# Altium footprint library Connector_PinHeader_1.00mm.PcbLib: 278 footprints (part 5 of 18)
Each footprint in its own frame and in the unit in brackets; x right, y up, seen from the top. Pads: shape width x height; smd on the part's side, far side on the other; paste and mask are expansions set on the pad; w line width, h text height; cw(c..) or ccw(c..) is an arc to the next point about the centre after c.
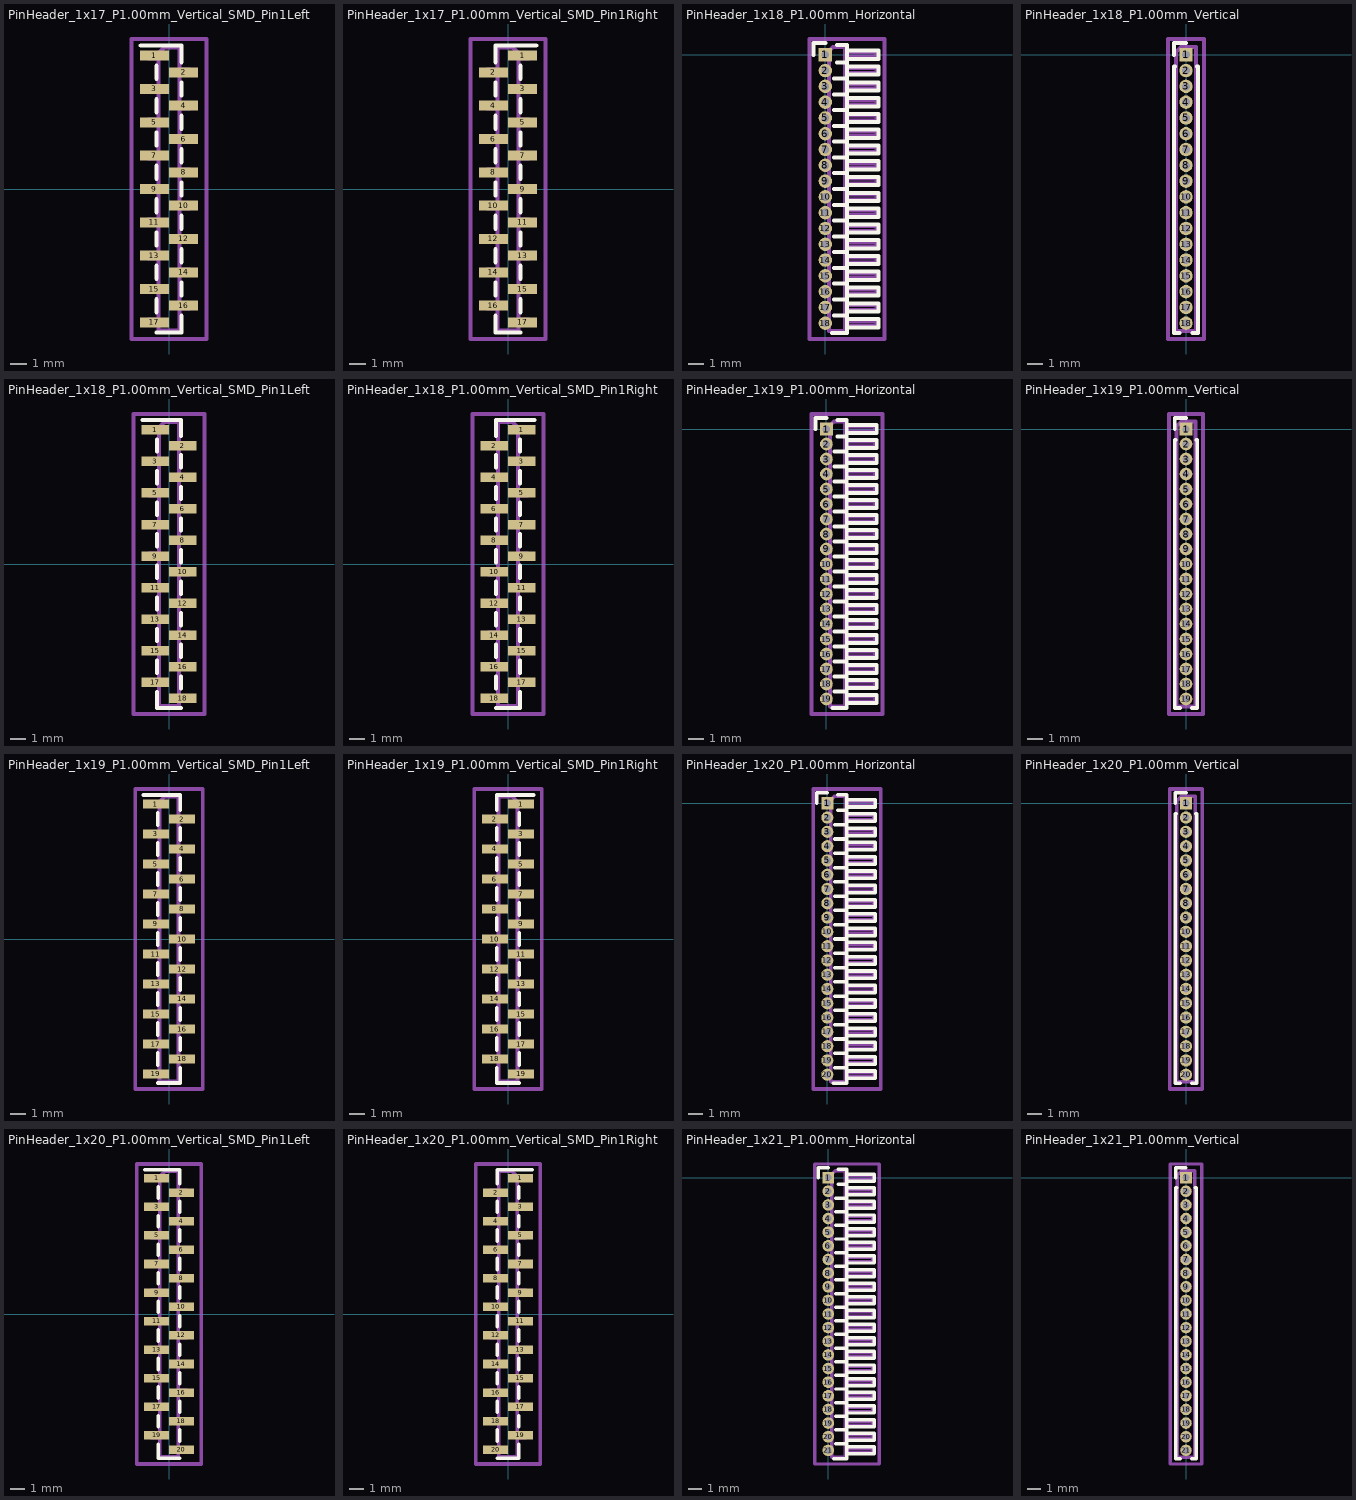
[diagram p4: the footprints below, top view; thin cyan lines are the x and y axes]

## PinHeader_1x17_P1.00mm_Vertical_SMD_Pin1Left [mm]
pads (17):
  rect 1.75x0.6 smd: 1(-0.875,8) 2(0.875,7) 3(-0.875,6) 4(0.875,5) 5(-0.875,4) 6(0.875,3) 7(-0.875,2) 8(0.875,1) 9(-0.875,0) 10(0.875,-1) 11(-0.875,-2) 12(0.875,-3) 13(-0.875,-4) 14(0.875,-5) 15(-0.875,-6) 16(0.875,-7) 17(-0.875,-8)
F.SilkS:
  lines w0.254: -1.69,8.61 -0.745,8.61 0.745,8.61 0.745,7.61 ; -0.745,-8.61 0.745,-8.61 0.745,-7.61 ; -0.745,-7.39 -0.745,-6.61 ; -0.745,-5.39 -0.745,-4.61 ; -0.745,-3.39 -0.745,-2.61 ; -0.745,-1.39 -0.745,-0.61 ; -0.745,0.61 -0.745,1.39 ; -0.745,2.61 -0.745,3.39 ; -0.745,4.61 -0.745,5.39 ; -0.745,6.61 -0.745,7.39 ; 0.745,-6.39 0.745,-5.61 ; 0.745,-4.39 0.745,-3.61 ; 0.745,-2.39 0.745,-1.61 ; 0.745,-0.39 0.745,0.39 ; 0.745,1.61 0.745,2.39 ; 0.745,3.61 0.745,4.39 ; 0.745,5.61 0.745,6.39
Top Assembly:
  lines w0.254: -0.635,-8.15 -1.25,-8.15 -1.25,-7.85 -0.635,-7.85 ; -0.635,-6.15 -1.25,-6.15 -1.25,-5.85 -0.635,-5.85 ; -0.635,-4.15 -1.25,-4.15 -1.25,-3.85 -0.635,-3.85 ; -0.635,-2.15 -1.25,-2.15 -1.25,-1.85 -0.635,-1.85 ; -0.635,-0.15 -1.25,-0.15 -1.25,0.15 -0.635,0.15 ; -0.635,1.85 -1.25,1.85 -1.25,2.15 -0.635,2.15 ; -0.635,3.85 -1.25,3.85 -1.25,4.15 -0.635,4.15 ; -0.635,5.85 -1.25,5.85 -1.25,6.15 -0.635,6.15 ; -0.635,7.85 -1.25,7.85 -1.25,8.15 -0.635,8.15 ; 0.635,-7.15 1.25,-7.15 1.25,-6.85 0.635,-6.85 ; 0.635,-5.15 1.25,-5.15 1.25,-4.85 0.635,-4.85 ; 0.635,-3.15 1.25,-3.15 1.25,-2.85 0.635,-2.85 ; 0.635,-1.15 1.25,-1.15 1.25,-0.85 0.635,-0.85 ; 0.635,0.85 1.25,0.85 1.25,1.15 0.635,1.15 ; 0.635,2.85 1.25,2.85 1.25,3.15 0.635,3.15 ; 0.635,4.85 1.25,4.85 1.25,5.15 0.635,5.15 ; 0.635,6.85 1.25,6.85 1.25,7.15 0.635,7.15 ; -0.635,8.15 -0.635,-8.5 0.635,-8.5 0.635,8.5 -0.285,8.5 -0.635,8.15
  text "'.Designator'" at 0.84,-4.047 h1
Top Courtyard:
  lines w0.254: -2.25,-9 2.25,-9 2.25,9 -2.25,9 -2.25,-9
Top Designator:
  text ".Designator" at -7.618,-0.508 h1.52

## PinHeader_1x17_P1.00mm_Vertical_SMD_Pin1Right [mm]
pads (17):
  rect 1.75x0.6 smd: 1(0.875,8) 2(-0.875,7) 3(0.875,6) 4(-0.875,5) 5(0.875,4) 6(-0.875,3) 7(0.875,2) 8(-0.875,1) 9(0.875,0) 10(-0.875,-1) 11(0.875,-2) 12(-0.875,-3) 13(0.875,-4) 14(-0.875,-5) 15(0.875,-6) 16(-0.875,-7) 17(0.875,-8)
F.SilkS:
  lines w0.254: -0.745,-7.61 -0.745,-8.61 0.745,-8.61 ; -0.745,-6.39 -0.745,-5.61 ; -0.745,-4.39 -0.745,-3.61 ; -0.745,-2.39 -0.745,-1.61 ; -0.745,-0.39 -0.745,0.39 ; -0.745,1.61 -0.745,2.39 ; -0.745,3.61 -0.745,4.39 ; -0.745,5.61 -0.745,6.39 ; -0.745,8.39 -0.745,7.61 -0.745,8.61 0.745,8.61 1.69,8.61 ; 0.745,-7.39 0.745,-6.61 ; 0.745,-5.39 0.745,-4.61 ; 0.745,-3.39 0.745,-2.61 ; 0.745,-1.39 0.745,-0.61 ; 0.745,0.61 0.745,1.39 ; 0.745,2.61 0.745,3.39 ; 0.745,4.61 0.745,5.39 ; 0.745,6.61 0.745,7.39
Top Assembly:
  lines w0.254: -0.635,-7.15 -1.25,-7.15 -1.25,-6.85 -0.635,-6.85 ; -0.635,-5.15 -1.25,-5.15 -1.25,-4.85 -0.635,-4.85 ; -0.635,-3.15 -1.25,-3.15 -1.25,-2.85 -0.635,-2.85 ; -0.635,-1.15 -1.25,-1.15 -1.25,-0.85 -0.635,-0.85 ; -0.635,0.85 -1.25,0.85 -1.25,1.15 -0.635,1.15 ; -0.635,2.85 -1.25,2.85 -1.25,3.15 -0.635,3.15 ; -0.635,4.85 -1.25,4.85 -1.25,5.15 -0.635,5.15 ; -0.635,6.85 -1.25,6.85 -1.25,7.15 -0.635,7.15 ; 0.635,-8.15 1.25,-8.15 1.25,-7.85 0.635,-7.85 ; 0.635,-6.15 1.25,-6.15 1.25,-5.85 0.635,-5.85 ; 0.635,-4.15 1.25,-4.15 1.25,-3.85 0.635,-3.85 ; 0.635,-2.15 1.25,-2.15 1.25,-1.85 0.635,-1.85 ; 0.635,-0.15 1.25,-0.15 1.25,0.15 0.635,0.15 ; 0.635,1.85 1.25,1.85 1.25,2.15 0.635,2.15 ; 0.635,3.85 1.25,3.85 1.25,4.15 0.635,4.15 ; 0.635,5.85 1.25,5.85 1.25,6.15 0.635,6.15 ; 0.635,7.85 1.25,7.85 1.25,8.15 0.635,8.15 ; 0.635,8.15 0.635,-8.5 -0.635,-8.5 -0.635,8.5 0.285,8.5 0.635,8.15
  text "'.Designator'" at 0.84,-4.047 h1
Top Courtyard:
  lines w0.254: -2.25,-9 2.25,-9 2.25,9 -2.25,9 -2.25,-9
Top Designator:
  text ".Designator" at -7.618,-0.508 h1.52

## PinHeader_1x18_P1.00mm_Horizontal [mm]
pads (18):
  rect 0.85x0.85 hole 0.5: 1(0,0)
  round 0.85 hole 0.5: 2(0,-1) 3(0,-2) 4(0,-3) 5(0,-4) 6(0,-5) 7(0,-6) 8(0,-7) 9(0,-8) 10(0,-9) 11(0,-10) 12(0,-11) 13(0,-12) 14(0,-13) 15(0,-14) 16(0,-15) 17(0,-16) 18(0,-17)
F.SilkS:
  lines w0.254: -0.735,0 -0.735,0.735 0,0.735 ; 0.41,-17.61 1.36,-17.61 1.36,0.61 0.735,0.61 ; 0.539,-16.5 1.36,-16.5 ; 0.539,-15.5 1.36,-15.5 ; 0.539,-14.5 1.36,-14.5 ; 0.539,-13.5 1.36,-13.5 ; 0.539,-12.5 1.36,-12.5 ; 0.539,-11.5 1.36,-11.5 ; 0.539,-10.5 1.36,-10.5 ; 0.539,-9.5 1.36,-9.5 ; 0.539,-8.5 1.36,-8.5 ; 0.539,-7.5 1.36,-7.5 ; 0.539,-6.5 1.36,-6.5 ; 0.539,-5.5 1.36,-5.5 ; 0.539,-4.5 1.36,-4.5 ; 0.539,-3.5 1.36,-3.5 ; 0.539,-2.5 1.36,-2.5 ; 0.539,-1.5 1.36,-1.5 ; 0.735,-0.5 1.36,-0.5 ; 1.36,-17.26 3.36,-17.26 3.36,-16.74 1.36,-16.74 ; 1.36,-16.26 3.36,-16.26 3.36,-15.74 1.36,-15.74 ; 1.36,-15.26 3.36,-15.26 3.36,-14.74 1.36,-14.74 ; 1.36,-14.26 3.36,-14.26 3.36,-13.74 1.36,-13.74 ; 1.36,-13.26 3.36,-13.26 3.36,-12.74 1.36,-12.74 ; 1.36,-12.26 3.36,-12.26 3.36,-11.74 1.36,-11.74 ; 1.36,-11.26 3.36,-11.26 3.36,-10.74 1.36,-10.74 ; 1.36,-10.26 3.36,-10.26 3.36,-9.74 1.36,-9.74 ; 1.36,-9.26 3.36,-9.26 3.36,-8.74 1.36,-8.74 ; 1.36,-8.26 3.36,-8.26 3.36,-7.74 1.36,-7.74 ; 1.36,-7.26 3.36,-7.26 3.36,-6.74 1.36,-6.74 ; 1.36,-6.26 3.36,-6.26 3.36,-5.74 1.36,-5.74 ; 1.36,-5.26 3.36,-5.26 3.36,-4.74 1.36,-4.74 ; 1.36,-4.26 3.36,-4.26 3.36,-3.74 1.36,-3.74 ; 1.36,-3.26 3.36,-3.26 3.36,-2.74 1.36,-2.74 ; 1.36,-2.26 3.36,-2.26 3.36,-1.74 1.36,-1.74 ; 1.36,-1.26 3.36,-1.26 3.36,-0.74 1.36,-0.74 ; 1.36,-0.26 3.36,-0.26 3.36,0.26 1.36,0.26 1.36,-0.26
Top Assembly:
  lines w0.254: 0.25,-17.15 -0.15,-17.15 -0.15,-16.85 0.25,-16.85 ; 0.25,-16.15 -0.15,-16.15 -0.15,-15.85 0.25,-15.85 ; 0.25,-15.15 -0.15,-15.15 -0.15,-14.85 0.25,-14.85 ; 0.25,-14.15 -0.15,-14.15 -0.15,-13.85 0.25,-13.85 ; 0.25,-13.15 -0.15,-13.15 -0.15,-12.85 0.25,-12.85 ; 0.25,-12.15 -0.15,-12.15 -0.15,-11.85 0.25,-11.85 ; 0.25,-11.15 -0.15,-11.15 -0.15,-10.85 0.25,-10.85 ; 0.25,-10.15 -0.15,-10.15 -0.15,-9.85 0.25,-9.85 ; 0.25,-9.15 -0.15,-9.15 -0.15,-8.85 0.25,-8.85 ; 0.25,-8.15 -0.15,-8.15 -0.15,-7.85 0.25,-7.85 ; 0.25,-7.15 -0.15,-7.15 -0.15,-6.85 0.25,-6.85 ; 0.25,-6.15 -0.15,-6.15 -0.15,-5.85 0.25,-5.85 ; 0.25,-5.15 -0.15,-5.15 -0.15,-4.85 0.25,-4.85 ; 0.25,-4.15 -0.15,-4.15 -0.15,-3.85 0.25,-3.85 ; 0.25,-3.15 -0.15,-3.15 -0.15,-2.85 0.25,-2.85 ; 0.25,-2.15 -0.15,-2.15 -0.15,-1.85 0.25,-1.85 ; 0.25,-1.15 -0.15,-1.15 -0.15,-0.85 0.25,-0.85 ; 0.25,-0.15 -0.15,-0.15 -0.15,0.15 0.25,0.15 ; 1.25,-17.15 3.25,-17.15 3.25,-16.85 1.25,-16.85 ; 1.25,-16.15 3.25,-16.15 3.25,-15.85 1.25,-15.85 ; 1.25,-15.15 3.25,-15.15 3.25,-14.85 1.25,-14.85 ; 1.25,-14.15 3.25,-14.15 3.25,-13.85 1.25,-13.85 ; 1.25,-13.15 3.25,-13.15 3.25,-12.85 1.25,-12.85 ; 1.25,-12.15 3.25,-12.15 3.25,-11.85 1.25,-11.85 ; 1.25,-11.15 3.25,-11.15 3.25,-10.85 1.25,-10.85 ; 1.25,-10.15 3.25,-10.15 3.25,-9.85 1.25,-9.85 ; 1.25,-9.15 3.25,-9.15 3.25,-8.85 1.25,-8.85 ; 1.25,-8.15 3.25,-8.15 3.25,-7.85 1.25,-7.85 ; 1.25,-7.15 3.25,-7.15 3.25,-6.85 1.25,-6.85 ; 1.25,-6.15 3.25,-6.15 3.25,-5.85 1.25,-5.85 ; 1.25,-5.15 3.25,-5.15 3.25,-4.85 1.25,-4.85 ; 1.25,-4.15 3.25,-4.15 3.25,-3.85 1.25,-3.85 ; 1.25,-3.15 3.25,-3.15 3.25,-2.85 1.25,-2.85 ; 1.25,-2.15 3.25,-2.15 3.25,-1.85 1.25,-1.85 ; 1.25,-1.15 3.25,-1.15 3.25,-0.85 1.25,-0.85 ; 1.25,-0.15 3.25,-0.15 3.25,0.15 1.25,0.15 ; 0.25,-17.5 1.25,-17.5 1.25,0.5 0.5,0.5 0.25,0.25 0.25,-17.5
  text "'.Designator'" at 1.254,-10.928 h0.6
Top Courtyard:
  lines w0.254: -1,-18 3.75,-18 3.75,1 -1,1 -1,-18
Top Designator:
  text ".Designator" at -6.243,-9.008 h1.52

## PinHeader_1x18_P1.00mm_Vertical [mm]
pads (18):
  rect 0.85x0.85 hole 0.5: 1(0,0)
  round 0.85 hole 0.5: 2(0,-1) 3(0,-2) 4(0,-3) 5(0,-4) 6(0,-5) 7(0,-6) 8(0,-7) 9(0,-8) 10(0,-9) 11(0,-10) 12(0,-11) 13(0,-12) 14(0,-13) 15(0,-14) 16(0,-15) 17(0,-16) 18(0,-17)
F.SilkS:
  lines w0.254: -0.745,0 -0.745,0.735 0,0.735 ; -0.686,-0.735 -0.745,-0.735 -0.745,-17.61 -0.41,-17.61 ; 0.41,-17.61 0.745,-17.61 0.745,-0.735 0.686,-0.735
Top Assembly:
  lines w0.254: -0.635,-17.5 0.635,-17.5 0.635,0.5 -0.318,0.5 -0.635,0.182 -0.635,-17.5
  text "'.Designator'" at 0.639,-11.576 h0.76
Top Courtyard:
  lines w0.254: -1.14,-18 1.14,-18 1.14,1 -1.14,1 -1.14,-18
Top Designator:
  text ".Designator" at -7.618,-9.008 h1.52

## PinHeader_1x18_P1.00mm_Vertical_SMD_Pin1Left [mm]
pads (18):
  rect 1.75x0.6 smd: 1(-0.875,8.5) 2(0.875,7.5) 3(-0.875,6.5) 4(0.875,5.5) 5(-0.875,4.5) 6(0.875,3.5) 7(-0.875,2.5) 8(0.875,1.5) 9(-0.875,0.5) 10(0.875,-0.5) 11(-0.875,-1.5) 12(0.875,-2.5) 13(-0.875,-3.5) 14(0.875,-4.5) 15(-0.875,-5.5) 16(0.875,-6.5) 17(-0.875,-7.5) 18(0.875,-8.5)
F.SilkS:
  lines w0.254: -1.69,9.11 -0.745,9.11 0.745,9.11 0.745,8.11 ; -0.745,-8.11 -0.745,-9.11 0.745,-9.11 ; -0.745,-6.89 -0.745,-6.11 ; -0.745,-4.89 -0.745,-4.11 ; -0.745,-2.89 -0.745,-2.11 ; -0.745,-0.89 -0.745,-0.11 ; -0.745,1.11 -0.745,1.89 ; -0.745,3.11 -0.745,3.89 ; -0.745,5.11 -0.745,5.89 ; -0.745,7.11 -0.745,7.89 ; 0.745,-7.89 0.745,-7.11 ; 0.745,-5.89 0.745,-5.11 ; 0.745,-3.89 0.745,-3.11 ; 0.745,-1.89 0.745,-1.11 ; 0.745,0.11 0.745,0.89 ; 0.745,2.11 0.745,2.89 ; 0.745,4.11 0.745,4.89 ; 0.745,6.11 0.745,6.89
Top Assembly:
  lines w0.254: -0.635,-7.65 -1.25,-7.65 -1.25,-7.35 -0.635,-7.35 ; -0.635,-5.65 -1.25,-5.65 -1.25,-5.35 -0.635,-5.35 ; -0.635,-3.65 -1.25,-3.65 -1.25,-3.35 -0.635,-3.35 ; -0.635,-1.65 -1.25,-1.65 -1.25,-1.35 -0.635,-1.35 ; -0.635,0.35 -1.25,0.35 -1.25,0.65 -0.635,0.65 ; -0.635,2.35 -1.25,2.35 -1.25,2.65 -0.635,2.65 ; -0.635,4.35 -1.25,4.35 -1.25,4.65 -0.635,4.65 ; -0.635,6.35 -1.25,6.35 -1.25,6.65 -0.635,6.65 ; -0.635,8.35 -1.25,8.35 -1.25,8.65 -0.635,8.65 ; 0.635,-8.65 1.25,-8.65 1.25,-8.35 0.635,-8.35 ; 0.635,-6.65 1.25,-6.65 1.25,-6.35 0.635,-6.35 ; 0.635,-4.65 1.25,-4.65 1.25,-4.35 0.635,-4.35 ; 0.635,-2.65 1.25,-2.65 1.25,-2.35 0.635,-2.35 ; 0.635,-0.65 1.25,-0.65 1.25,-0.35 0.635,-0.35 ; 0.635,1.35 1.25,1.35 1.25,1.65 0.635,1.65 ; 0.635,3.35 1.25,3.35 1.25,3.65 0.635,3.65 ; 0.635,5.35 1.25,5.35 1.25,5.65 0.635,5.65 ; 0.635,7.35 1.25,7.35 1.25,7.65 0.635,7.65 ; -0.635,8.65 -0.635,-9 0.635,-9 0.635,9 -0.285,9 -0.635,8.65
  text "'.Designator'" at 0.84,-4.047 h1
Top Courtyard:
  lines w0.254: -2.25,-9.5 2.25,-9.5 2.25,9.5 -2.25,9.5 -2.25,-9.5
Top Designator:
  text ".Designator" at -7.618,-0.508 h1.52

## PinHeader_1x18_P1.00mm_Vertical_SMD_Pin1Right [mm]
pads (18):
  rect 1.75x0.6 smd: 1(0.875,8.5) 2(-0.875,7.5) 3(0.875,6.5) 4(-0.875,5.5) 5(0.875,4.5) 6(-0.875,3.5) 7(0.875,2.5) 8(-0.875,1.5) 9(0.875,0.5) 10(-0.875,-0.5) 11(0.875,-1.5) 12(-0.875,-2.5) 13(0.875,-3.5) 14(-0.875,-4.5) 15(0.875,-5.5) 16(-0.875,-6.5) 17(0.875,-7.5) 18(-0.875,-8.5)
F.SilkS:
  lines w0.254: -0.745,-9.11 0.745,-9.11 0.745,-8.11 ; -0.745,-7.89 -0.745,-7.11 ; -0.745,-5.89 -0.745,-5.11 ; -0.745,-3.89 -0.745,-3.11 ; -0.745,-1.89 -0.745,-1.11 ; -0.745,0.11 -0.745,0.89 ; -0.745,2.11 -0.745,2.89 ; -0.745,4.11 -0.745,4.89 ; -0.745,6.11 -0.745,6.89 ; -0.745,8.89 -0.745,8.11 -0.745,9.11 0.745,9.11 1.69,9.11 ; 0.745,-6.89 0.745,-6.11 ; 0.745,-4.89 0.745,-4.11 ; 0.745,-2.89 0.745,-2.11 ; 0.745,-0.89 0.745,-0.11 ; 0.745,1.11 0.745,1.89 ; 0.745,3.11 0.745,3.89 ; 0.745,5.11 0.745,5.89 ; 0.745,7.11 0.745,7.89
Top Assembly:
  lines w0.254: -0.635,-8.65 -1.25,-8.65 -1.25,-8.35 -0.635,-8.35 ; -0.635,-6.65 -1.25,-6.65 -1.25,-6.35 -0.635,-6.35 ; -0.635,-4.65 -1.25,-4.65 -1.25,-4.35 -0.635,-4.35 ; -0.635,-2.65 -1.25,-2.65 -1.25,-2.35 -0.635,-2.35 ; -0.635,-0.65 -1.25,-0.65 -1.25,-0.35 -0.635,-0.35 ; -0.635,1.35 -1.25,1.35 -1.25,1.65 -0.635,1.65 ; -0.635,3.35 -1.25,3.35 -1.25,3.65 -0.635,3.65 ; -0.635,5.35 -1.25,5.35 -1.25,5.65 -0.635,5.65 ; -0.635,7.35 -1.25,7.35 -1.25,7.65 -0.635,7.65 ; 0.635,-7.65 1.25,-7.65 1.25,-7.35 0.635,-7.35 ; 0.635,-5.65 1.25,-5.65 1.25,-5.35 0.635,-5.35 ; 0.635,-3.65 1.25,-3.65 1.25,-3.35 0.635,-3.35 ; 0.635,-1.65 1.25,-1.65 1.25,-1.35 0.635,-1.35 ; 0.635,0.35 1.25,0.35 1.25,0.65 0.635,0.65 ; 0.635,2.35 1.25,2.35 1.25,2.65 0.635,2.65 ; 0.635,4.35 1.25,4.35 1.25,4.65 0.635,4.65 ; 0.635,6.35 1.25,6.35 1.25,6.65 0.635,6.65 ; 0.635,8.35 1.25,8.35 1.25,8.65 0.635,8.65 ; 0.635,8.65 0.635,-9 -0.635,-9 -0.635,9 0.285,9 0.635,8.65
  text "'.Designator'" at 0.84,-4.047 h1
Top Courtyard:
  lines w0.254: -2.25,-9.5 2.25,-9.5 2.25,9.5 -2.25,9.5 -2.25,-9.5
Top Designator:
  text ".Designator" at -7.618,-0.508 h1.52

## PinHeader_1x19_P1.00mm_Horizontal [mm]
pads (19):
  rect 0.85x0.85 hole 0.5: 1(0,0)
  round 0.85 hole 0.5: 2(0,-1) 3(0,-2) 4(0,-3) 5(0,-4) 6(0,-5) 7(0,-6) 8(0,-7) 9(0,-8) 10(0,-9) 11(0,-10) 12(0,-11) 13(0,-12) 14(0,-13) 15(0,-14) 16(0,-15) 17(0,-16) 18(0,-17) 19(0,-18)
F.SilkS:
  lines w0.254: -0.735,0 -0.735,0.735 0,0.735 ; 0.41,-18.61 1.36,-18.61 1.36,0.61 0.735,0.61 ; 0.539,-17.5 1.36,-17.5 ; 0.539,-16.5 1.36,-16.5 ; 0.539,-15.5 1.36,-15.5 ; 0.539,-14.5 1.36,-14.5 ; 0.539,-13.5 1.36,-13.5 ; 0.539,-12.5 1.36,-12.5 ; 0.539,-11.5 1.36,-11.5 ; 0.539,-10.5 1.36,-10.5 ; 0.539,-9.5 1.36,-9.5 ; 0.539,-8.5 1.36,-8.5 ; 0.539,-7.5 1.36,-7.5 ; 0.539,-6.5 1.36,-6.5 ; 0.539,-5.5 1.36,-5.5 ; 0.539,-4.5 1.36,-4.5 ; 0.539,-3.5 1.36,-3.5 ; 0.539,-2.5 1.36,-2.5 ; 0.539,-1.5 1.36,-1.5 ; 0.735,-0.5 1.36,-0.5 ; 1.36,-18.26 3.36,-18.26 3.36,-17.74 1.36,-17.74 ; 1.36,-17.26 3.36,-17.26 3.36,-16.74 1.36,-16.74 ; 1.36,-16.26 3.36,-16.26 3.36,-15.74 1.36,-15.74 ; 1.36,-15.26 3.36,-15.26 3.36,-14.74 1.36,-14.74 ; 1.36,-14.26 3.36,-14.26 3.36,-13.74 1.36,-13.74 ; 1.36,-13.26 3.36,-13.26 3.36,-12.74 1.36,-12.74 ; 1.36,-12.26 3.36,-12.26 3.36,-11.74 1.36,-11.74 ; 1.36,-11.26 3.36,-11.26 3.36,-10.74 1.36,-10.74 ; 1.36,-10.26 3.36,-10.26 3.36,-9.74 1.36,-9.74 ; 1.36,-9.26 3.36,-9.26 3.36,-8.74 1.36,-8.74 ; 1.36,-8.26 3.36,-8.26 3.36,-7.74 1.36,-7.74 ; 1.36,-7.26 3.36,-7.26 3.36,-6.74 1.36,-6.74 ; 1.36,-6.26 3.36,-6.26 3.36,-5.74 1.36,-5.74 ; 1.36,-5.26 3.36,-5.26 3.36,-4.74 1.36,-4.74 ; 1.36,-4.26 3.36,-4.26 3.36,-3.74 1.36,-3.74 ; 1.36,-3.26 3.36,-3.26 3.36,-2.74 1.36,-2.74 ; 1.36,-2.26 3.36,-2.26 3.36,-1.74 1.36,-1.74 ; 1.36,-1.26 3.36,-1.26 3.36,-0.74 1.36,-0.74 ; 1.36,-0.26 3.36,-0.26 3.36,0.26 1.36,0.26 1.36,-0.26
Top Assembly:
  lines w0.254: 0.25,-18.15 -0.15,-18.15 -0.15,-17.85 0.25,-17.85 ; 0.25,-17.15 -0.15,-17.15 -0.15,-16.85 0.25,-16.85 ; 0.25,-16.15 -0.15,-16.15 -0.15,-15.85 0.25,-15.85 ; 0.25,-15.15 -0.15,-15.15 -0.15,-14.85 0.25,-14.85 ; 0.25,-14.15 -0.15,-14.15 -0.15,-13.85 0.25,-13.85 ; 0.25,-13.15 -0.15,-13.15 -0.15,-12.85 0.25,-12.85 ; 0.25,-12.15 -0.15,-12.15 -0.15,-11.85 0.25,-11.85 ; 0.25,-11.15 -0.15,-11.15 -0.15,-10.85 0.25,-10.85 ; 0.25,-10.15 -0.15,-10.15 -0.15,-9.85 0.25,-9.85 ; 0.25,-9.15 -0.15,-9.15 -0.15,-8.85 0.25,-8.85 ; 0.25,-8.15 -0.15,-8.15 -0.15,-7.85 0.25,-7.85 ; 0.25,-7.15 -0.15,-7.15 -0.15,-6.85 0.25,-6.85 ; 0.25,-6.15 -0.15,-6.15 -0.15,-5.85 0.25,-5.85 ; 0.25,-5.15 -0.15,-5.15 -0.15,-4.85 0.25,-4.85 ; 0.25,-4.15 -0.15,-4.15 -0.15,-3.85 0.25,-3.85 ; 0.25,-3.15 -0.15,-3.15 -0.15,-2.85 0.25,-2.85 ; 0.25,-2.15 -0.15,-2.15 -0.15,-1.85 0.25,-1.85 ; 0.25,-1.15 -0.15,-1.15 -0.15,-0.85 0.25,-0.85 ; 0.25,-0.15 -0.15,-0.15 -0.15,0.15 0.25,0.15 ; 1.25,-18.15 3.25,-18.15 3.25,-17.85 1.25,-17.85 ; 1.25,-17.15 3.25,-17.15 3.25,-16.85 1.25,-16.85 ; 1.25,-16.15 3.25,-16.15 3.25,-15.85 1.25,-15.85 ; 1.25,-15.15 3.25,-15.15 3.25,-14.85 1.25,-14.85 ; 1.25,-14.15 3.25,-14.15 3.25,-13.85 1.25,-13.85 ; 1.25,-13.15 3.25,-13.15 3.25,-12.85 1.25,-12.85 ; 1.25,-12.15 3.25,-12.15 3.25,-11.85 1.25,-11.85 ; 1.25,-11.15 3.25,-11.15 3.25,-10.85 1.25,-10.85 ; 1.25,-10.15 3.25,-10.15 3.25,-9.85 1.25,-9.85 ; 1.25,-9.15 3.25,-9.15 3.25,-8.85 1.25,-8.85 ; 1.25,-8.15 3.25,-8.15 3.25,-7.85 1.25,-7.85 ; 1.25,-7.15 3.25,-7.15 3.25,-6.85 1.25,-6.85 ; 1.25,-6.15 3.25,-6.15 3.25,-5.85 1.25,-5.85 ; 1.25,-5.15 3.25,-5.15 3.25,-4.85 1.25,-4.85 ; 1.25,-4.15 3.25,-4.15 3.25,-3.85 1.25,-3.85 ; 1.25,-3.15 3.25,-3.15 3.25,-2.85 1.25,-2.85 ; 1.25,-2.15 3.25,-2.15 3.25,-1.85 1.25,-1.85 ; 1.25,-1.15 3.25,-1.15 3.25,-0.85 1.25,-0.85 ; 1.25,-0.15 3.25,-0.15 3.25,0.15 1.25,0.15 ; 0.25,-18.5 1.25,-18.5 1.25,0.5 0.5,0.5 0.25,0.25 0.25,-18.5
  text "'.Designator'" at 1.254,-11.428 h0.6
Top Courtyard:
  lines w0.254: -1,-19 3.75,-19 3.75,1 -1,1 -1,-19
Top Designator:
  text ".Designator" at -6.243,-9.508 h1.52

## PinHeader_1x19_P1.00mm_Vertical [mm]
pads (19):
  rect 0.85x0.85 hole 0.5: 1(0,0)
  round 0.85 hole 0.5: 2(0,-1) 3(0,-2) 4(0,-3) 5(0,-4) 6(0,-5) 7(0,-6) 8(0,-7) 9(0,-8) 10(0,-9) 11(0,-10) 12(0,-11) 13(0,-12) 14(0,-13) 15(0,-14) 16(0,-15) 17(0,-16) 18(0,-17) 19(0,-18)
F.SilkS:
  lines w0.254: -0.745,0 -0.745,0.735 0,0.735 ; -0.686,-0.735 -0.745,-0.735 -0.745,-18.61 -0.41,-18.61 ; 0.41,-18.61 0.745,-18.61 0.745,-0.735 0.686,-0.735
Top Assembly:
  lines w0.254: -0.635,-18.5 0.635,-18.5 0.635,0.5 -0.318,0.5 -0.635,0.182 -0.635,-18.5
  text "'.Designator'" at 0.639,-12.076 h0.76
Top Courtyard:
  lines w0.254: -1.14,-19 1.14,-19 1.14,1 -1.14,1 -1.14,-19
Top Designator:
  text ".Designator" at -7.618,-9.508 h1.52

## PinHeader_1x19_P1.00mm_Vertical_SMD_Pin1Left [mm]
pads (19):
  rect 1.75x0.6 smd: 1(-0.875,9) 2(0.875,8) 3(-0.875,7) 4(0.875,6) 5(-0.875,5) 6(0.875,4) 7(-0.875,3) 8(0.875,2) 9(-0.875,1) 10(0.875,0) 11(-0.875,-1) 12(0.875,-2) 13(-0.875,-3) 14(0.875,-4) 15(-0.875,-5) 16(0.875,-6) 17(-0.875,-7) 18(0.875,-8) 19(-0.875,-9)
F.SilkS:
  lines w0.254: -1.69,9.61 -0.745,9.61 0.745,9.61 0.745,8.61 ; -0.745,-9.61 0.745,-9.61 0.745,-8.61 ; -0.745,-8.39 -0.745,-7.61 ; -0.745,-6.39 -0.745,-5.61 ; -0.745,-4.39 -0.745,-3.61 ; -0.745,-2.39 -0.745,-1.61 ; -0.745,-0.39 -0.745,0.39 ; -0.745,1.61 -0.745,2.39 ; -0.745,3.61 -0.745,4.39 ; -0.745,5.61 -0.745,6.39 ; -0.745,7.61 -0.745,8.39 ; 0.745,-7.39 0.745,-6.61 ; 0.745,-5.39 0.745,-4.61 ; 0.745,-3.39 0.745,-2.61 ; 0.745,-1.39 0.745,-0.61 ; 0.745,0.61 0.745,1.39 ; 0.745,2.61 0.745,3.39 ; 0.745,4.61 0.745,5.39 ; 0.745,6.61 0.745,7.39
Top Assembly:
  lines w0.254: -0.635,-9.15 -1.25,-9.15 -1.25,-8.85 -0.635,-8.85 ; -0.635,-7.15 -1.25,-7.15 -1.25,-6.85 -0.635,-6.85 ; -0.635,-5.15 -1.25,-5.15 -1.25,-4.85 -0.635,-4.85 ; -0.635,-3.15 -1.25,-3.15 -1.25,-2.85 -0.635,-2.85 ; -0.635,-1.15 -1.25,-1.15 -1.25,-0.85 -0.635,-0.85 ; -0.635,0.85 -1.25,0.85 -1.25,1.15 -0.635,1.15 ; -0.635,2.85 -1.25,2.85 -1.25,3.15 -0.635,3.15 ; -0.635,4.85 -1.25,4.85 -1.25,5.15 -0.635,5.15 ; -0.635,6.85 -1.25,6.85 -1.25,7.15 -0.635,7.15 ; -0.635,8.85 -1.25,8.85 -1.25,9.15 -0.635,9.15 ; 0.635,-8.15 1.25,-8.15 1.25,-7.85 0.635,-7.85 ; 0.635,-6.15 1.25,-6.15 1.25,-5.85 0.635,-5.85 ; 0.635,-4.15 1.25,-4.15 1.25,-3.85 0.635,-3.85 ; 0.635,-2.15 1.25,-2.15 1.25,-1.85 0.635,-1.85 ; 0.635,-0.15 1.25,-0.15 1.25,0.15 0.635,0.15 ; 0.635,1.85 1.25,1.85 1.25,2.15 0.635,2.15 ; 0.635,3.85 1.25,3.85 1.25,4.15 0.635,4.15 ; 0.635,5.85 1.25,5.85 1.25,6.15 0.635,6.15 ; 0.635,7.85 1.25,7.85 1.25,8.15 0.635,8.15 ; -0.635,9.15 -0.635,-9.5 0.635,-9.5 0.635,9.5 -0.285,9.5 -0.635,9.15
  text "'.Designator'" at 0.84,-4.047 h1
Top Courtyard:
  lines w0.254: -2.25,-10 2.25,-10 2.25,10 -2.25,10 -2.25,-10
Top Designator:
  text ".Designator" at -7.618,-0.508 h1.52

## PinHeader_1x19_P1.00mm_Vertical_SMD_Pin1Right [mm]
pads (19):
  rect 1.75x0.6 smd: 1(0.875,9) 2(-0.875,8) 3(0.875,7) 4(-0.875,6) 5(0.875,5) 6(-0.875,4) 7(0.875,3) 8(-0.875,2) 9(0.875,1) 10(-0.875,0) 11(0.875,-1) 12(-0.875,-2) 13(0.875,-3) 14(-0.875,-4) 15(0.875,-5) 16(-0.875,-6) 17(0.875,-7) 18(-0.875,-8) 19(0.875,-9)
F.SilkS:
  lines w0.254: -0.745,-8.61 -0.745,-9.61 0.745,-9.61 ; -0.745,-7.39 -0.745,-6.61 ; -0.745,-5.39 -0.745,-4.61 ; -0.745,-3.39 -0.745,-2.61 ; -0.745,-1.39 -0.745,-0.61 ; -0.745,0.61 -0.745,1.39 ; -0.745,2.61 -0.745,3.39 ; -0.745,4.61 -0.745,5.39 ; -0.745,6.61 -0.745,7.39 ; -0.745,9.39 -0.745,8.61 -0.745,9.61 0.745,9.61 1.69,9.61 ; 0.745,-8.39 0.745,-7.61 ; 0.745,-6.39 0.745,-5.61 ; 0.745,-4.39 0.745,-3.61 ; 0.745,-2.39 0.745,-1.61 ; 0.745,-0.39 0.745,0.39 ; 0.745,1.61 0.745,2.39 ; 0.745,3.61 0.745,4.39 ; 0.745,5.61 0.745,6.39 ; 0.745,7.61 0.745,8.39
Top Assembly:
  lines w0.254: -0.635,-8.15 -1.25,-8.15 -1.25,-7.85 -0.635,-7.85 ; -0.635,-6.15 -1.25,-6.15 -1.25,-5.85 -0.635,-5.85 ; -0.635,-4.15 -1.25,-4.15 -1.25,-3.85 -0.635,-3.85 ; -0.635,-2.15 -1.25,-2.15 -1.25,-1.85 -0.635,-1.85 ; -0.635,-0.15 -1.25,-0.15 -1.25,0.15 -0.635,0.15 ; -0.635,1.85 -1.25,1.85 -1.25,2.15 -0.635,2.15 ; -0.635,3.85 -1.25,3.85 -1.25,4.15 -0.635,4.15 ; -0.635,5.85 -1.25,5.85 -1.25,6.15 -0.635,6.15 ; -0.635,7.85 -1.25,7.85 -1.25,8.15 -0.635,8.15 ; 0.635,-9.15 1.25,-9.15 1.25,-8.85 0.635,-8.85 ; 0.635,-7.15 1.25,-7.15 1.25,-6.85 0.635,-6.85 ; 0.635,-5.15 1.25,-5.15 1.25,-4.85 0.635,-4.85 ; 0.635,-3.15 1.25,-3.15 1.25,-2.85 0.635,-2.85 ; 0.635,-1.15 1.25,-1.15 1.25,-0.85 0.635,-0.85 ; 0.635,0.85 1.25,0.85 1.25,1.15 0.635,1.15 ; 0.635,2.85 1.25,2.85 1.25,3.15 0.635,3.15 ; 0.635,4.85 1.25,4.85 1.25,5.15 0.635,5.15 ; 0.635,6.85 1.25,6.85 1.25,7.15 0.635,7.15 ; 0.635,8.85 1.25,8.85 1.25,9.15 0.635,9.15 ; 0.635,9.15 0.635,-9.5 -0.635,-9.5 -0.635,9.5 0.285,9.5 0.635,9.15
  text "'.Designator'" at 0.84,-4.047 h1
Top Courtyard:
  lines w0.254: -2.25,-10 2.25,-10 2.25,10 -2.25,10 -2.25,-10
Top Designator:
  text ".Designator" at -7.618,-0.508 h1.52

## PinHeader_1x20_P1.00mm_Horizontal [mm]
pads (20):
  rect 0.85x0.85 hole 0.5: 1(0,0)
  round 0.85 hole 0.5: 2(0,-1) 3(0,-2) 4(0,-3) 5(0,-4) 6(0,-5) 7(0,-6) 8(0,-7) 9(0,-8) 10(0,-9) 11(0,-10) 12(0,-11) 13(0,-12) 14(0,-13) 15(0,-14) 16(0,-15) 17(0,-16) 18(0,-17) 19(0,-18) 20(0,-19)
F.SilkS:
  lines w0.254: -0.735,0 -0.735,0.735 0,0.735 ; 0.41,-19.61 1.36,-19.61 1.36,0.61 0.735,0.61 ; 0.539,-18.5 1.36,-18.5 ; 0.539,-17.5 1.36,-17.5 ; 0.539,-16.5 1.36,-16.5 ; 0.539,-15.5 1.36,-15.5 ; 0.539,-14.5 1.36,-14.5 ; 0.539,-13.5 1.36,-13.5 ; 0.539,-12.5 1.36,-12.5 ; 0.539,-11.5 1.36,-11.5 ; 0.539,-10.5 1.36,-10.5 ; 0.539,-9.5 1.36,-9.5 ; 0.539,-8.5 1.36,-8.5 ; 0.539,-7.5 1.36,-7.5 ; 0.539,-6.5 1.36,-6.5 ; 0.539,-5.5 1.36,-5.5 ; 0.539,-4.5 1.36,-4.5 ; 0.539,-3.5 1.36,-3.5 ; 0.539,-2.5 1.36,-2.5 ; 0.539,-1.5 1.36,-1.5 ; 0.735,-0.5 1.36,-0.5 ; 1.36,-19.26 3.36,-19.26 3.36,-18.74 1.36,-18.74 ; 1.36,-18.26 3.36,-18.26 3.36,-17.74 1.36,-17.74 ; 1.36,-17.26 3.36,-17.26 3.36,-16.74 1.36,-16.74 ; 1.36,-16.26 3.36,-16.26 3.36,-15.74 1.36,-15.74 ; 1.36,-15.26 3.36,-15.26 3.36,-14.74 1.36,-14.74 ; 1.36,-14.26 3.36,-14.26 3.36,-13.74 1.36,-13.74 ; 1.36,-13.26 3.36,-13.26 3.36,-12.74 1.36,-12.74 ; 1.36,-12.26 3.36,-12.26 3.36,-11.74 1.36,-11.74 ; 1.36,-11.26 3.36,-11.26 3.36,-10.74 1.36,-10.74 ; 1.36,-10.26 3.36,-10.26 3.36,-9.74 1.36,-9.74 ; 1.36,-9.26 3.36,-9.26 3.36,-8.74 1.36,-8.74 ; 1.36,-8.26 3.36,-8.26 3.36,-7.74 1.36,-7.74 ; 1.36,-7.26 3.36,-7.26 3.36,-6.74 1.36,-6.74 ; 1.36,-6.26 3.36,-6.26 3.36,-5.74 1.36,-5.74 ; 1.36,-5.26 3.36,-5.26 3.36,-4.74 1.36,-4.74 ; 1.36,-4.26 3.36,-4.26 3.36,-3.74 1.36,-3.74 ; 1.36,-3.26 3.36,-3.26 3.36,-2.74 1.36,-2.74 ; 1.36,-2.26 3.36,-2.26 3.36,-1.74 1.36,-1.74 ; 1.36,-1.26 3.36,-1.26 3.36,-0.74 1.36,-0.74 ; 1.36,-0.26 3.36,-0.26 3.36,0.26 1.36,0.26 1.36,-0.26
Top Assembly:
  lines w0.254: 0.25,-19.15 -0.15,-19.15 -0.15,-18.85 0.25,-18.85 ; 0.25,-18.15 -0.15,-18.15 -0.15,-17.85 0.25,-17.85 ; 0.25,-17.15 -0.15,-17.15 -0.15,-16.85 0.25,-16.85 ; 0.25,-16.15 -0.15,-16.15 -0.15,-15.85 0.25,-15.85 ; 0.25,-15.15 -0.15,-15.15 -0.15,-14.85 0.25,-14.85 ; 0.25,-14.15 -0.15,-14.15 -0.15,-13.85 0.25,-13.85 ; 0.25,-13.15 -0.15,-13.15 -0.15,-12.85 0.25,-12.85 ; 0.25,-12.15 -0.15,-12.15 -0.15,-11.85 0.25,-11.85 ; 0.25,-11.15 -0.15,-11.15 -0.15,-10.85 0.25,-10.85 ; 0.25,-10.15 -0.15,-10.15 -0.15,-9.85 0.25,-9.85 ; 0.25,-9.15 -0.15,-9.15 -0.15,-8.85 0.25,-8.85 ; 0.25,-8.15 -0.15,-8.15 -0.15,-7.85 0.25,-7.85 ; 0.25,-7.15 -0.15,-7.15 -0.15,-6.85 0.25,-6.85 ; 0.25,-6.15 -0.15,-6.15 -0.15,-5.85 0.25,-5.85 ; 0.25,-5.15 -0.15,-5.15 -0.15,-4.85 0.25,-4.85 ; 0.25,-4.15 -0.15,-4.15 -0.15,-3.85 0.25,-3.85 ; 0.25,-3.15 -0.15,-3.15 -0.15,-2.85 0.25,-2.85 ; 0.25,-2.15 -0.15,-2.15 -0.15,-1.85 0.25,-1.85 ; 0.25,-1.15 -0.15,-1.15 -0.15,-0.85 0.25,-0.85 ; 0.25,-0.15 -0.15,-0.15 -0.15,0.15 0.25,0.15 ; 1.25,-19.15 3.25,-19.15 3.25,-18.85 1.25,-18.85 ; 1.25,-18.15 3.25,-18.15 3.25,-17.85 1.25,-17.85 ; 1.25,-17.15 3.25,-17.15 3.25,-16.85 1.25,-16.85 ; 1.25,-16.15 3.25,-16.15 3.25,-15.85 1.25,-15.85 ; 1.25,-15.15 3.25,-15.15 3.25,-14.85 1.25,-14.85 ; 1.25,-14.15 3.25,-14.15 3.25,-13.85 1.25,-13.85 ; 1.25,-13.15 3.25,-13.15 3.25,-12.85 1.25,-12.85 ; 1.25,-12.15 3.25,-12.15 3.25,-11.85 1.25,-11.85 ; 1.25,-11.15 3.25,-11.15 3.25,-10.85 1.25,-10.85 ; 1.25,-10.15 3.25,-10.15 3.25,-9.85 1.25,-9.85 ; 1.25,-9.15 3.25,-9.15 3.25,-8.85 1.25,-8.85 ; 1.25,-8.15 3.25,-8.15 3.25,-7.85 1.25,-7.85 ; 1.25,-7.15 3.25,-7.15 3.25,-6.85 1.25,-6.85 ; 1.25,-6.15 3.25,-6.15 3.25,-5.85 1.25,-5.85 ; 1.25,-5.15 3.25,-5.15 3.25,-4.85 1.25,-4.85 ; 1.25,-4.15 3.25,-4.15 3.25,-3.85 1.25,-3.85 ; 1.25,-3.15 3.25,-3.15 3.25,-2.85 1.25,-2.85 ; 1.25,-2.15 3.25,-2.15 3.25,-1.85 1.25,-1.85 ; 1.25,-1.15 3.25,-1.15 3.25,-0.85 1.25,-0.85 ; 1.25,-0.15 3.25,-0.15 3.25,0.15 1.25,0.15 ; 0.25,-19.5 1.25,-19.5 1.25,0.5 0.5,0.5 0.25,0.25 0.25,-19.5
  text "'.Designator'" at 1.254,-11.928 h0.6
Top Courtyard:
  lines w0.254: -1,-20 3.75,-20 3.75,1 -1,1 -1,-20
Top Designator:
  text ".Designator" at -6.243,-10.008 h1.52

## PinHeader_1x20_P1.00mm_Vertical [mm]
pads (20):
  rect 0.85x0.85 hole 0.5: 1(0,0)
  round 0.85 hole 0.5: 2(0,-1) 3(0,-2) 4(0,-3) 5(0,-4) 6(0,-5) 7(0,-6) 8(0,-7) 9(0,-8) 10(0,-9) 11(0,-10) 12(0,-11) 13(0,-12) 14(0,-13) 15(0,-14) 16(0,-15) 17(0,-16) 18(0,-17) 19(0,-18) 20(0,-19)
F.SilkS:
  lines w0.254: -0.745,0 -0.745,0.735 0,0.735 ; -0.686,-0.735 -0.745,-0.735 -0.745,-19.61 -0.41,-19.61 ; 0.41,-19.61 0.745,-19.61 0.745,-0.735 0.686,-0.735
Top Assembly:
  lines w0.254: -0.635,-19.5 0.635,-19.5 0.635,0.5 -0.318,0.5 -0.635,0.182 -0.635,-19.5
  text "'.Designator'" at 0.639,-12.576 h0.76
Top Courtyard:
  lines w0.254: -1.14,-20 1.14,-20 1.14,1 -1.14,1 -1.14,-20
Top Designator:
  text ".Designator" at -7.618,-10.008 h1.52

## PinHeader_1x20_P1.00mm_Vertical_SMD_Pin1Left [mm]
pads (20):
  rect 1.75x0.6 smd: 1(-0.875,9.5) 2(0.875,8.5) 3(-0.875,7.5) 4(0.875,6.5) 5(-0.875,5.5) 6(0.875,4.5) 7(-0.875,3.5) 8(0.875,2.5) 9(-0.875,1.5) 10(0.875,0.5) 11(-0.875,-0.5) 12(0.875,-1.5) 13(-0.875,-2.5) 14(0.875,-3.5) 15(-0.875,-4.5) 16(0.875,-5.5) 17(-0.875,-6.5) 18(0.875,-7.5) 19(-0.875,-8.5) 20(0.875,-9.5)
F.SilkS:
  lines w0.254: -1.69,10.11 -0.745,10.11 0.745,10.11 0.745,9.11 ; -0.745,-9.11 -0.745,-10.11 0.745,-10.11 ; -0.745,-7.89 -0.745,-7.11 ; -0.745,-5.89 -0.745,-5.11 ; -0.745,-3.89 -0.745,-3.11 ; -0.745,-1.89 -0.745,-1.11 ; -0.745,0.11 -0.745,0.89 ; -0.745,2.11 -0.745,2.89 ; -0.745,4.11 -0.745,4.89 ; -0.745,6.11 -0.745,6.89 ; -0.745,8.11 -0.745,8.89 ; 0.745,-8.89 0.745,-8.11 ; 0.745,-6.89 0.745,-6.11 ; 0.745,-4.89 0.745,-4.11 ; 0.745,-2.89 0.745,-2.11 ; 0.745,-0.89 0.745,-0.11 ; 0.745,1.11 0.745,1.89 ; 0.745,3.11 0.745,3.89 ; 0.745,5.11 0.745,5.89 ; 0.745,7.11 0.745,7.89
Top Assembly:
  lines w0.254: -0.635,-8.65 -1.25,-8.65 -1.25,-8.35 -0.635,-8.35 ; -0.635,-6.65 -1.25,-6.65 -1.25,-6.35 -0.635,-6.35 ; -0.635,-4.65 -1.25,-4.65 -1.25,-4.35 -0.635,-4.35 ; -0.635,-2.65 -1.25,-2.65 -1.25,-2.35 -0.635,-2.35 ; -0.635,-0.65 -1.25,-0.65 -1.25,-0.35 -0.635,-0.35 ; -0.635,1.35 -1.25,1.35 -1.25,1.65 -0.635,1.65 ; -0.635,3.35 -1.25,3.35 -1.25,3.65 -0.635,3.65 ; -0.635,5.35 -1.25,5.35 -1.25,5.65 -0.635,5.65 ; -0.635,7.35 -1.25,7.35 -1.25,7.65 -0.635,7.65 ; -0.635,9.35 -1.25,9.35 -1.25,9.65 -0.635,9.65 ; 0.635,-9.65 1.25,-9.65 1.25,-9.35 0.635,-9.35 ; 0.635,-7.65 1.25,-7.65 1.25,-7.35 0.635,-7.35 ; 0.635,-5.65 1.25,-5.65 1.25,-5.35 0.635,-5.35 ; 0.635,-3.65 1.25,-3.65 1.25,-3.35 0.635,-3.35 ; 0.635,-1.65 1.25,-1.65 1.25,-1.35 0.635,-1.35 ; 0.635,0.35 1.25,0.35 1.25,0.65 0.635,0.65 ; 0.635,2.35 1.25,2.35 1.25,2.65 0.635,2.65 ; 0.635,4.35 1.25,4.35 1.25,4.65 0.635,4.65 ; 0.635,6.35 1.25,6.35 1.25,6.65 0.635,6.65 ; 0.635,8.35 1.25,8.35 1.25,8.65 0.635,8.65 ; -0.635,9.65 -0.635,-10 0.635,-10 0.635,10 -0.285,10 -0.635,9.65
  text "'.Designator'" at 0.84,-4.047 h1
Top Courtyard:
  lines w0.254: -2.25,-10.5 2.25,-10.5 2.25,10.5 -2.25,10.5 -2.25,-10.5
Top Designator:
  text ".Designator" at -7.618,-0.508 h1.52

## PinHeader_1x20_P1.00mm_Vertical_SMD_Pin1Right [mm]
pads (20):
  rect 1.75x0.6 smd: 1(0.875,9.5) 2(-0.875,8.5) 3(0.875,7.5) 4(-0.875,6.5) 5(0.875,5.5) 6(-0.875,4.5) 7(0.875,3.5) 8(-0.875,2.5) 9(0.875,1.5) 10(-0.875,0.5) 11(0.875,-0.5) 12(-0.875,-1.5) 13(0.875,-2.5) 14(-0.875,-3.5) 15(0.875,-4.5) 16(-0.875,-5.5) 17(0.875,-6.5) 18(-0.875,-7.5) 19(0.875,-8.5) 20(-0.875,-9.5)
F.SilkS:
  lines w0.254: -0.745,-10.11 0.745,-10.11 0.745,-9.11 ; -0.745,-8.89 -0.745,-8.11 ; -0.745,-6.89 -0.745,-6.11 ; -0.745,-4.89 -0.745,-4.11 ; -0.745,-2.89 -0.745,-2.11 ; -0.745,-0.89 -0.745,-0.11 ; -0.745,1.11 -0.745,1.89 ; -0.745,3.11 -0.745,3.89 ; -0.745,5.11 -0.745,5.89 ; -0.745,7.11 -0.745,7.89 ; -0.745,9.89 -0.745,9.11 -0.745,10.11 0.745,10.11 1.69,10.11 ; 0.745,-7.89 0.745,-7.11 ; 0.745,-5.89 0.745,-5.11 ; 0.745,-3.89 0.745,-3.11 ; 0.745,-1.89 0.745,-1.11 ; 0.745,0.11 0.745,0.89 ; 0.745,2.11 0.745,2.89 ; 0.745,4.11 0.745,4.89 ; 0.745,6.11 0.745,6.89 ; 0.745,8.11 0.745,8.89
Top Assembly:
  lines w0.254: -0.635,-9.65 -1.25,-9.65 -1.25,-9.35 -0.635,-9.35 ; -0.635,-7.65 -1.25,-7.65 -1.25,-7.35 -0.635,-7.35 ; -0.635,-5.65 -1.25,-5.65 -1.25,-5.35 -0.635,-5.35 ; -0.635,-3.65 -1.25,-3.65 -1.25,-3.35 -0.635,-3.35 ; -0.635,-1.65 -1.25,-1.65 -1.25,-1.35 -0.635,-1.35 ; -0.635,0.35 -1.25,0.35 -1.25,0.65 -0.635,0.65 ; -0.635,2.35 -1.25,2.35 -1.25,2.65 -0.635,2.65 ; -0.635,4.35 -1.25,4.35 -1.25,4.65 -0.635,4.65 ; -0.635,6.35 -1.25,6.35 -1.25,6.65 -0.635,6.65 ; -0.635,8.35 -1.25,8.35 -1.25,8.65 -0.635,8.65 ; 0.635,-8.65 1.25,-8.65 1.25,-8.35 0.635,-8.35 ; 0.635,-6.65 1.25,-6.65 1.25,-6.35 0.635,-6.35 ; 0.635,-4.65 1.25,-4.65 1.25,-4.35 0.635,-4.35 ; 0.635,-2.65 1.25,-2.65 1.25,-2.35 0.635,-2.35 ; 0.635,-0.65 1.25,-0.65 1.25,-0.35 0.635,-0.35 ; 0.635,1.35 1.25,1.35 1.25,1.65 0.635,1.65 ; 0.635,3.35 1.25,3.35 1.25,3.65 0.635,3.65 ; 0.635,5.35 1.25,5.35 1.25,5.65 0.635,5.65 ; 0.635,7.35 1.25,7.35 1.25,7.65 0.635,7.65 ; 0.635,9.35 1.25,9.35 1.25,9.65 0.635,9.65 ; 0.635,9.65 0.635,-10 -0.635,-10 -0.635,10 0.285,10 0.635,9.65
  text "'.Designator'" at 0.84,-4.047 h1
Top Courtyard:
  lines w0.254: -2.25,-10.5 2.25,-10.5 2.25,10.5 -2.25,10.5 -2.25,-10.5
Top Designator:
  text ".Designator" at -7.618,-0.508 h1.52

## PinHeader_1x21_P1.00mm_Horizontal [mm]
pads (21):
  rect 0.85x0.85 hole 0.5: 1(0,0)
  round 0.85 hole 0.5: 2(0,-1) 3(0,-2) 4(0,-3) 5(0,-4) 6(0,-5) 7(0,-6) 8(0,-7) 9(0,-8) 10(0,-9) 11(0,-10) 12(0,-11) 13(0,-12) 14(0,-13) 15(0,-14) 16(0,-15) 17(0,-16) 18(0,-17) 19(0,-18) 20(0,-19) 21(0,-20)
F.SilkS:
  lines w0.254: -0.735,0 -0.735,0.735 0,0.735 ; 0.41,-20.61 1.36,-20.61 1.36,0.61 0.735,0.61 ; 0.539,-19.5 1.36,-19.5 ; 0.539,-18.5 1.36,-18.5 ; 0.539,-17.5 1.36,-17.5 ; 0.539,-16.5 1.36,-16.5 ; 0.539,-15.5 1.36,-15.5 ; 0.539,-14.5 1.36,-14.5 ; 0.539,-13.5 1.36,-13.5 ; 0.539,-12.5 1.36,-12.5 ; 0.539,-11.5 1.36,-11.5 ; 0.539,-10.5 1.36,-10.5 ; 0.539,-9.5 1.36,-9.5 ; 0.539,-8.5 1.36,-8.5 ; 0.539,-7.5 1.36,-7.5 ; 0.539,-6.5 1.36,-6.5 ; 0.539,-5.5 1.36,-5.5 ; 0.539,-4.5 1.36,-4.5 ; 0.539,-3.5 1.36,-3.5 ; 0.539,-2.5 1.36,-2.5 ; 0.539,-1.5 1.36,-1.5 ; 0.735,-0.5 1.36,-0.5 ; 1.36,-20.26 3.36,-20.26 3.36,-19.74 1.36,-19.74 ; 1.36,-19.26 3.36,-19.26 3.36,-18.74 1.36,-18.74 ; 1.36,-18.26 3.36,-18.26 3.36,-17.74 1.36,-17.74 ; 1.36,-17.26 3.36,-17.26 3.36,-16.74 1.36,-16.74 ; 1.36,-16.26 3.36,-16.26 3.36,-15.74 1.36,-15.74 ; 1.36,-15.26 3.36,-15.26 3.36,-14.74 1.36,-14.74 ; 1.36,-14.26 3.36,-14.26 3.36,-13.74 1.36,-13.74 ; 1.36,-13.26 3.36,-13.26 3.36,-12.74 1.36,-12.74 ; 1.36,-12.26 3.36,-12.26 3.36,-11.74 1.36,-11.74 ; 1.36,-11.26 3.36,-11.26 3.36,-10.74 1.36,-10.74 ; 1.36,-10.26 3.36,-10.26 3.36,-9.74 1.36,-9.74 ; 1.36,-9.26 3.36,-9.26 3.36,-8.74 1.36,-8.74 ; 1.36,-8.26 3.36,-8.26 3.36,-7.74 1.36,-7.74 ; 1.36,-7.26 3.36,-7.26 3.36,-6.74 1.36,-6.74 ; 1.36,-6.26 3.36,-6.26 3.36,-5.74 1.36,-5.74 ; 1.36,-5.26 3.36,-5.26 3.36,-4.74 1.36,-4.74 ; 1.36,-4.26 3.36,-4.26 3.36,-3.74 1.36,-3.74 ; 1.36,-3.26 3.36,-3.26 3.36,-2.74 1.36,-2.74 ; 1.36,-2.26 3.36,-2.26 3.36,-1.74 1.36,-1.74 ; 1.36,-1.26 3.36,-1.26 3.36,-0.74 1.36,-0.74 ; 1.36,-0.26 3.36,-0.26 3.36,0.26 1.36,0.26 1.36,-0.26
Top Assembly:
  lines w0.254: 0.25,-20.15 -0.15,-20.15 -0.15,-19.85 0.25,-19.85 ; 0.25,-19.15 -0.15,-19.15 -0.15,-18.85 0.25,-18.85 ; 0.25,-18.15 -0.15,-18.15 -0.15,-17.85 0.25,-17.85 ; 0.25,-17.15 -0.15,-17.15 -0.15,-16.85 0.25,-16.85 ; 0.25,-16.15 -0.15,-16.15 -0.15,-15.85 0.25,-15.85 ; 0.25,-15.15 -0.15,-15.15 -0.15,-14.85 0.25,-14.85 ; 0.25,-14.15 -0.15,-14.15 -0.15,-13.85 0.25,-13.85 ; 0.25,-13.15 -0.15,-13.15 -0.15,-12.85 0.25,-12.85 ; 0.25,-12.15 -0.15,-12.15 -0.15,-11.85 0.25,-11.85 ; 0.25,-11.15 -0.15,-11.15 -0.15,-10.85 0.25,-10.85 ; 0.25,-10.15 -0.15,-10.15 -0.15,-9.85 0.25,-9.85 ; 0.25,-9.15 -0.15,-9.15 -0.15,-8.85 0.25,-8.85 ; 0.25,-8.15 -0.15,-8.15 -0.15,-7.85 0.25,-7.85 ; 0.25,-7.15 -0.15,-7.15 -0.15,-6.85 0.25,-6.85 ; 0.25,-6.15 -0.15,-6.15 -0.15,-5.85 0.25,-5.85 ; 0.25,-5.15 -0.15,-5.15 -0.15,-4.85 0.25,-4.85 ; 0.25,-4.15 -0.15,-4.15 -0.15,-3.85 0.25,-3.85 ; 0.25,-3.15 -0.15,-3.15 -0.15,-2.85 0.25,-2.85 ; 0.25,-2.15 -0.15,-2.15 -0.15,-1.85 0.25,-1.85 ; 0.25,-1.15 -0.15,-1.15 -0.15,-0.85 0.25,-0.85 ; 0.25,-0.15 -0.15,-0.15 -0.15,0.15 0.25,0.15 ; 1.25,-20.15 3.25,-20.15 3.25,-19.85 1.25,-19.85 ; 1.25,-19.15 3.25,-19.15 3.25,-18.85 1.25,-18.85 ; 1.25,-18.15 3.25,-18.15 3.25,-17.85 1.25,-17.85 ; 1.25,-17.15 3.25,-17.15 3.25,-16.85 1.25,-16.85 ; 1.25,-16.15 3.25,-16.15 3.25,-15.85 1.25,-15.85 ; 1.25,-15.15 3.25,-15.15 3.25,-14.85 1.25,-14.85 ; 1.25,-14.15 3.25,-14.15 3.25,-13.85 1.25,-13.85 ; 1.25,-13.15 3.25,-13.15 3.25,-12.85 1.25,-12.85 ; 1.25,-12.15 3.25,-12.15 3.25,-11.85 1.25,-11.85 ; 1.25,-11.15 3.25,-11.15 3.25,-10.85 1.25,-10.85 ; 1.25,-10.15 3.25,-10.15 3.25,-9.85 1.25,-9.85 ; 1.25,-9.15 3.25,-9.15 3.25,-8.85 1.25,-8.85 ; 1.25,-8.15 3.25,-8.15 3.25,-7.85 1.25,-7.85 ; 1.25,-7.15 3.25,-7.15 3.25,-6.85 1.25,-6.85 ; 1.25,-6.15 3.25,-6.15 3.25,-5.85 1.25,-5.85 ; 1.25,-5.15 3.25,-5.15 3.25,-4.85 1.25,-4.85 ; 1.25,-4.15 3.25,-4.15 3.25,-3.85 1.25,-3.85 ; 1.25,-3.15 3.25,-3.15 3.25,-2.85 1.25,-2.85 ; 1.25,-2.15 3.25,-2.15 3.25,-1.85 1.25,-1.85 ; 1.25,-1.15 3.25,-1.15 3.25,-0.85 1.25,-0.85 ; 1.25,-0.15 3.25,-0.15 3.25,0.15 1.25,0.15 ; 0.25,-20.5 1.25,-20.5 1.25,0.5 0.5,0.5 0.25,0.25 0.25,-20.5
  text "'.Designator'" at 1.254,-12.428 h0.6
Top Courtyard:
  lines w0.254: -1,-21 3.75,-21 3.75,1 -1,1 -1,-21
Top Designator:
  text ".Designator" at -6.243,-10.508 h1.52

## PinHeader_1x21_P1.00mm_Vertical [mm]
pads (21):
  rect 0.85x0.85 hole 0.5: 1(0,0)
  round 0.85 hole 0.5: 2(0,-1) 3(0,-2) 4(0,-3) 5(0,-4) 6(0,-5) 7(0,-6) 8(0,-7) 9(0,-8) 10(0,-9) 11(0,-10) 12(0,-11) 13(0,-12) 14(0,-13) 15(0,-14) 16(0,-15) 17(0,-16) 18(0,-17) 19(0,-18) 20(0,-19) 21(0,-20)
F.SilkS:
  lines w0.254: -0.745,0 -0.745,0.735 0,0.735 ; -0.686,-0.735 -0.745,-0.735 -0.745,-20.61 -0.41,-20.61 ; 0.41,-20.61 0.745,-20.61 0.745,-0.735 0.686,-0.735
Top Assembly:
  lines w0.254: -0.635,-20.5 0.635,-20.5 0.635,0.5 -0.318,0.5 -0.635,0.182 -0.635,-20.5
  text "'.Designator'" at 0.639,-13.076 h0.76
Top Courtyard:
  lines w0.254: -1.14,-21 1.14,-21 1.14,1 -1.14,1 -1.14,-21
Top Designator:
  text ".Designator" at -7.618,-10.508 h1.52